# Altium footprint library CONNECTOR.PcbLib: 8 footprints
Each footprint in its own frame and in the unit in brackets; x right, y up, seen from the top. Pads: shape width x height; smd on the part's side, far side on the other; paste and mask are expansions set on the pad; w line width, h text height; cw(c..) or ccw(c..) is an arc to the next point about the centre after c.
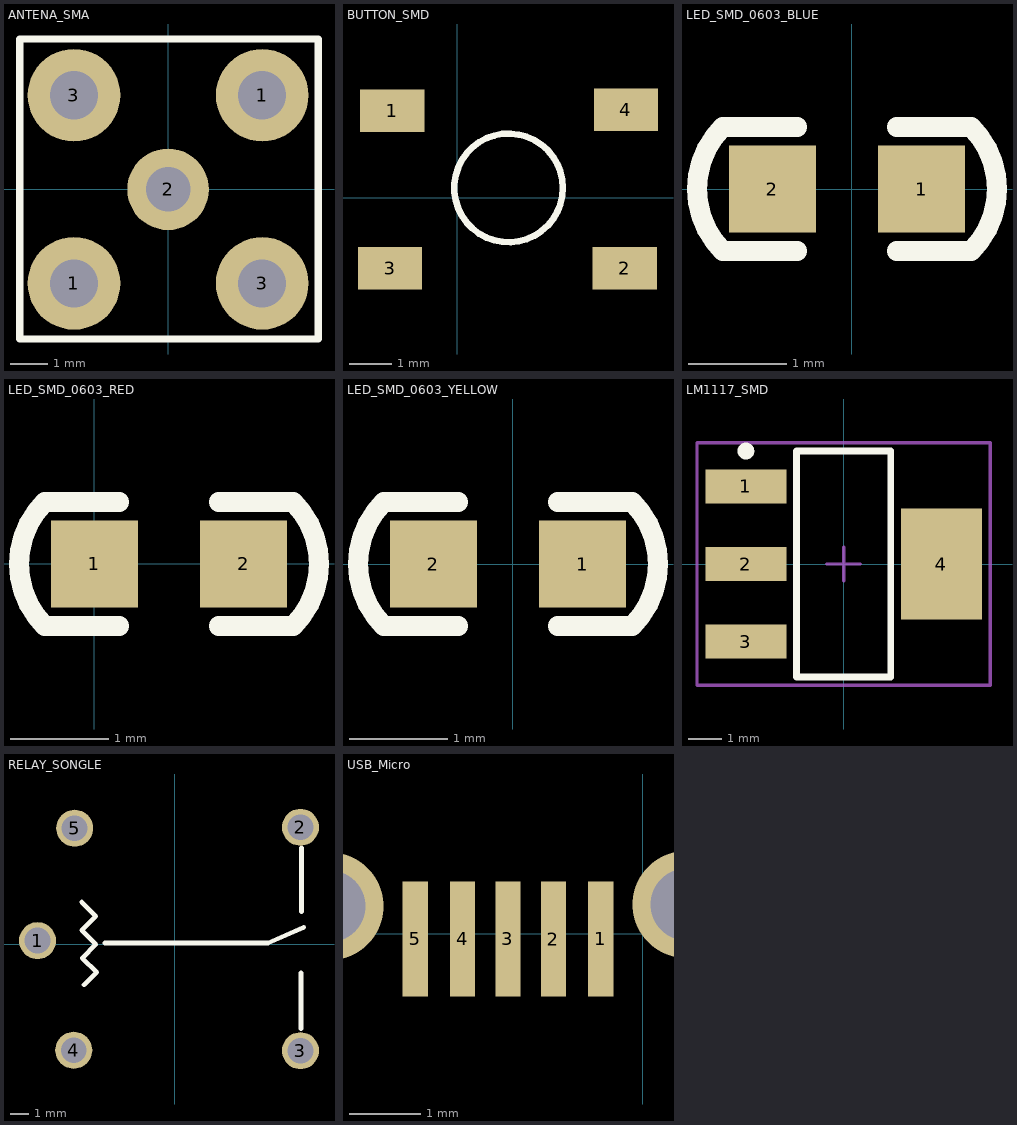
[diagram p0: the footprints below, top view; thin cyan lines are the x and y axes]

## ANTENA_SMA [mm] "Connector; Header; 2 Position"
height 1.27
pads (5):
  round 2.5 hole 1.3: 1(-2.54,-2.54) 1(2.54,2.54) 3(-2.54,2.54) 3(2.54,-2.54)
  round 2.2 hole 1.2: 2(0,0)
Top Overlay:
  lines w0.2: -4.01,-4.04 -4.01,4.06 4.06,4.06 4.06,-4.04 -4.01,-4.04
3D body "Samtec3dPS-SMA-TH.STEP": height 9.86, standoff -4.24, extent -3.5,-3.5 11.6,3.5

## BUTTON_SMD [mm] "SW button 4pin, 250 x250 mil"
height 2.54
pads (4):
  rect 1.5x1 smd: 1(-1.524,2.032) 2(3.912,-1.651) 3(-1.575,-1.651) 4(3.937,2.057)
Top Overlay:
  circle w0.152: c1.194,0.229 r1.27
3D body "User Library-LP16.STEP": height 1.5, standoff 0, extent -1.981,-2.347 4.419,2.753

## LED_SMD_0603_BLUE [mil] "C72041"
pads (2):
  rect 35x35 smd: 1(28,0) 2(-32,0)
Top Overlay:
  lines w8: -22,-25 -52,-25 cw(c-27,0) -52,25 -22,25 ; 18,-25 48,-25 ccw(c23,0) 48,25 18,25
3D body "User Library-LED_0603_B.STEP": height 23.62, standoff -0.08, extent -31.49,-15.74 31.51,15.75

## LED_SMD_0603_RED [mil]
pads (2):
  rect 35x35 smd: 1(0,0) 2(60,0)
Top Overlay:
  lines w8: 10,-25 -20,-25 cw(c5,0) -20,25 10,25 ; 50,-25 80,-25 ccw(c55,0) 80,25 50,25
3D body "User Library-LED_0603_R.STEP": height 23.62, standoff -0.08, extent -2.5,-15.75 60.5,15.75

## LED_SMD_0603_YELLOW [mil] "C72038"
pads (2):
  rect 35x35 smd: 1(28,0) 2(-32,0)
Top Overlay:
  lines w8: -22,-25 -52,-25 cw(c-27,0) -52,25 -22,25 ; 18,-25 48,-25 ccw(c23,0) 48,25 18,25
3D body "LED Yellow SMD 0603 Würth 150060YS55040.stp": height 15.75, standoff 0, extent -33.5,-15.49 29.5,16

## LM1117_SMD [mm] "SOT223, 4-Leads, Body 6.5x3.5mm, Pitch 2.3mm, Lead Span 7mm, IPC Medium Density"
height 1.8
pads (4):
  rect 2.4x1 smd: 1(-2.9,2.3) 2(-2.9,0) 3(-2.9,-2.3)
  rect 2.4x3.3 smd: 4(2.9,0)
Top Overlay:
  circle w0.25: c-2.9,3.35 r0.125
  lines w0.2: -1.4,-3.35 -1.4,3.35 1.4,3.35 1.4,-3.35 -1.4,-3.35
Mechanical 15:
  lines w0.1: -0.5,0 0.5,0 ; 0,-0.5 0,0.5 ; -4.35,-3.6 -4.35,3.6 4.35,3.6 4.35,-3.6 -4.35,-3.6
3D body "SW3dPS-Regulator.STEP": height 1.72, standoff 0.02, extent -3.395,-3.274 3.496,3.226

## RELAY_SONGLE [mm]
height 1.27
pads (5):
  round 2 hole 1.4: 1(-7.417,0.203) 2(6.782,6.325) 3(6.782,-5.74) 4(-5.461,-5.715) 5(-5.41,6.274)
Top Overlay:
  lines w0.254: -5.029,2.286 -4.267,1.524 -5.029,0.762 -4.267,0 -5.004,-0.737 -4.216,-1.499 -4.902,-2.184 ; -3.785,0.076 5.029,0.076 6.966,0.922 ; 6.807,-4.547 6.807,-1.524 ; 6.833,1.778 6.833,5.207
3D body "User Library-PANASONIC RELAY AUTO MINI SPDT 15A 12VDC - JSM1-12V-5-1.STEP": height 16, standoff -3.9, extent -10.314,-7.72 11.686,8.28

## USB_Micro [mm]
height 1.27
pads (5):
  rect 0.35x1.6 smd: 1(-0.584,-0.076) 2(-1.245,-0.076) 3(-1.88,-0.076) 4(-2.515,-0.076) 5(-3.175,-0.076)
via -5.385,3.175 diameter 1.8 hole 1.2
via 1.626,3.175 diameter 1.8 hole 1.2
via -4.369,0.381 diameter 1.5 hole 1
via 0.61,0.406 diameter 1.5 hole 1
3D body "User Library-10118194.STEP": height 2.73, standoff -0.55, extent -5.905,0.237 2.145,5.817